# Altium schematic symbol library Crystals.SchLib: 2 symbols
Pins are listed as number, name and electrical type; pins without a type are passive.

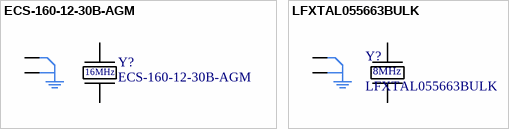
[diagram p0: symbols ECS-160-12-30B-AGM to LFXTAL055663BULK]

## ECS-160-12-30B-AGM
designator Y?
16MHz Crystal 12pF 100 Ohms 4-SMD, No Lead; Supplier 1: Digi-Key; Supplier 2: Mouser; Supplier Part Number 1: XC2686CT-ND; Supplier Part Number 2: 520-160-12-30B-AGMT
footprint LFXTAL055663BULK
pins: 1, 2, 3, 4
text: 16MHz

## LFXTAL055663BULK
designator Y?
8MHz ±20ppm Crystal 18pF 150 Ohms 4-SMD, No Lead; Supplier 1: Digi-Key; Supplier 2: Mouser; Supplier Part Number 1: 1923-1256-ND; Supplier Part Number 2: 449-LFXTAL055663BULK
footprint LFXTAL055663BULK
pins: 1, 2, 3, 4
text: 8MHz